# EAGLE library part DRV135 (library Fugu_LSI)
Audio-Balanced Line Drivers
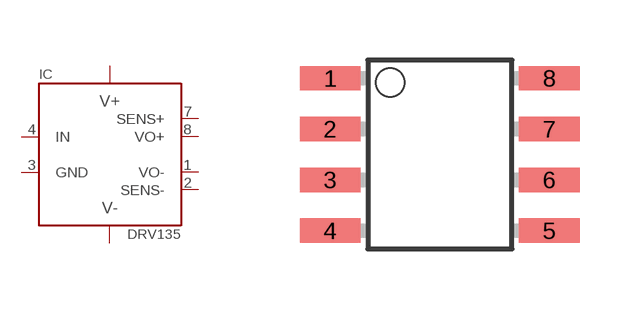
[diagram p19: symbol with the pads of SO-8; footprint SO-8]

Designator prefix IC

## DRV135  [SO-8]
1  VO-
2  SENS-
3  GND
4  IN
5  V-
6  V+
7  SENS+
8  VO+

## Footprint SO-8 (pad centres in mm)
SO 8 small outline
smd 1.524 x 0.61: 1 -2.743,1.905; 2 -2.743,0.635; 3 -2.743,-0.635; 4 -2.743,-1.905; 5 2.743,-1.905; 6 2.743,-0.635; 7 2.743,0.635; 8 2.743,1.905